# Altium schematic symbol library Li_Test.SchLib: 3 symbols
Pins are listed as number, name and electrical type; pins without a type are passive.

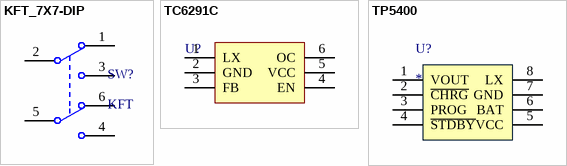
[diagram p0: symbols KFT_7X7-DIP to TP5400]

## KFT_7X7-DIP
designator SW?, comment KFT
Self-locking Switch
footprint KFT DIP-7X7 (自锁开关，规格：7*7mm)
pins: 1 NC1, 2 COM2, 3 NO1, 4 NO2, 5 COM2, 6 NC2

## TC6291C
designator U?
DC-DC升压IC
footprint SOT23-6
pins: 1 LX, 2 GND, 3 FB, 4 EN, 5 VCC, 6 OC

## TP5400
designator U?
footprint SOIC8
pins: 1 VOUT, 2 ~{CHRG}, 3 PROG, 4 ~{STDBY}, 5 VCC, 6 BAT, 7 GND, 8 LX